# Altium integrated library SN75452BD.IntLib: 1 symbol
Pins are listed as number, name and electrical type; pins without a type are passive.

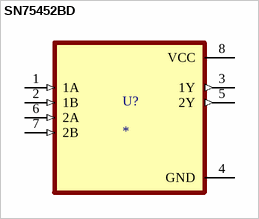
[diagram p0: symbol SN75452BD]

## SN75452BD
designator U?
30-V Dual output driver with NAND logic inputs; MF: Texas Instruments; MP: SN75452BD; Purchase-URL: https://pricing.snapeda.com/search/part/SN75452BD/?ref=eda; Value: *; SnapEDA_Link: https://www.snapeda.com/parts/SN75452BD/Texas+Instruments/view-part/?ref=snap; Package: SOIC-8 Texas Instruments; Check_prices: https://www.snapeda.com/parts/SN75452BD/Texas+Instruments/view-part/?ref=eda; Price: None; Availability: In Stock
footprint SOIC127P599X175-8N
pins: 1 1A (in), 2 1B (in), 3 1Y (out), 4 GND (power), 5 2Y (out), 6 2A (in), 7 2B (in), 8 VCC (power)